# EAGLE library part DRV134 (library texas)
AUDIO BALANCED LINE DRIVER
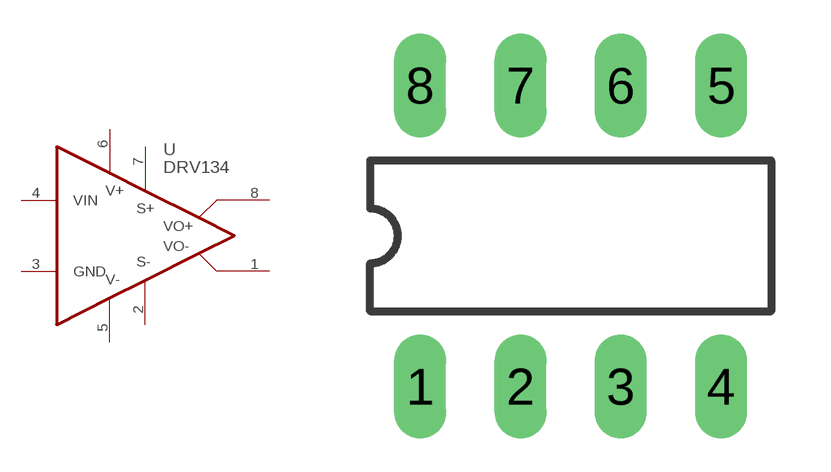
[diagram p53: symbol with the pads of DIL08; footprint DIL08]

Designator prefix U

## DRV134P  [DIL08]
1  VO-  out
2  S-  pas
3  GND  in
4  VIN  in
5  V-  pwr
6  V+  pwr
7  S+  out
8  VO+  out

## Footprint DIL08 (pad centres in mm)
Dual In Line Package
drill 0.813 long: 1 -3.81,-3.81; 2 -1.27,-3.81; 3 1.27,-3.81; 4 3.81,-3.81; 5 3.81,3.81; 6 1.27,3.81; 7 -1.27,3.81; 8 -3.81,3.81